# EAGLE library part SURE_8X8_CA_MATRIX_BICOLOR (library MyParts)
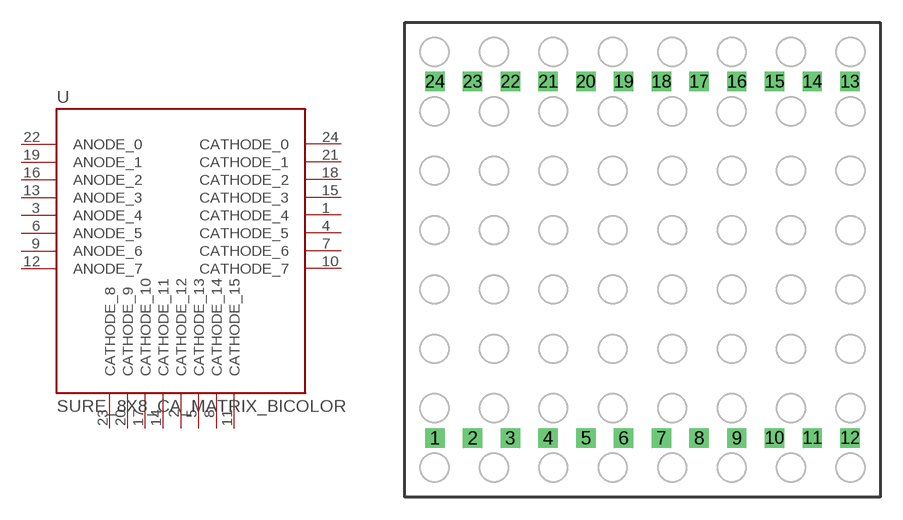
[diagram p25: symbol with the pads of 8X8_3MM_LED_MATRIX; footprint 8X8_3MM_LED_MATRIX]

Designator prefix -

## SURE_8X8_CA_MATRIX_BICOLOR  [8X8_3MM_LED_MATRIX]
1  CATHODE_4
2  CATHODE_12
3  ANODE_4
4  CATHODE_5
5  CATHODE_13
6  ANODE_5
7  CATHODE_6
8  CATHODE_14
9  ANODE_6
10  CATHODE_7
11  CATHODE_15
12  ANODE_7
13  ANODE_3
14  CATHODE_11
15  CATHODE_3
16  ANODE_2
17  CATHODE_10
18  CATHODE_2
19  ANODE_1
20  CATHODE_9
21  CATHODE_1
22  ANODE_0
23  CATHODE_8
24  CATHODE_0

## Footprint 8X8_3MM_LED_MATRIX (pad centres in mm)
drill 0.8 square: 1 -13.975,-12; 2 -11.435,-12; 3 -8.895,-12; 4 -6.355,-12; 5 -3.815,-12; 6 -1.275,-12; 7 1.265,-12; 8 3.805,-12; 9 6.345,-12; 10 8.885,-12; 11 11.425,-12; 12 13.965,-12; 13 13.965,12; 14 11.425,12; 15 8.885,12; 16 6.345,12; 17 3.805,12; 18 1.265,12; 19 -1.275,12; 20 -3.815,12; 21 -6.355,12; 22 -8.895,12; 23 -11.435,12; 24 -13.975,12